# Altium footprint library deepshark_pcb_lib.PcbLib: 21 footprints (part 1 of 2)
Each footprint in its own frame and in the unit in brackets; x right, y up, seen from the top. Pads: shape width x height; smd on the part's side, far side on the other; paste and mask are expansions set on the pad; w line width, h text height; cw(c..) or ccw(c..) is an arc to the next point about the centre after c.
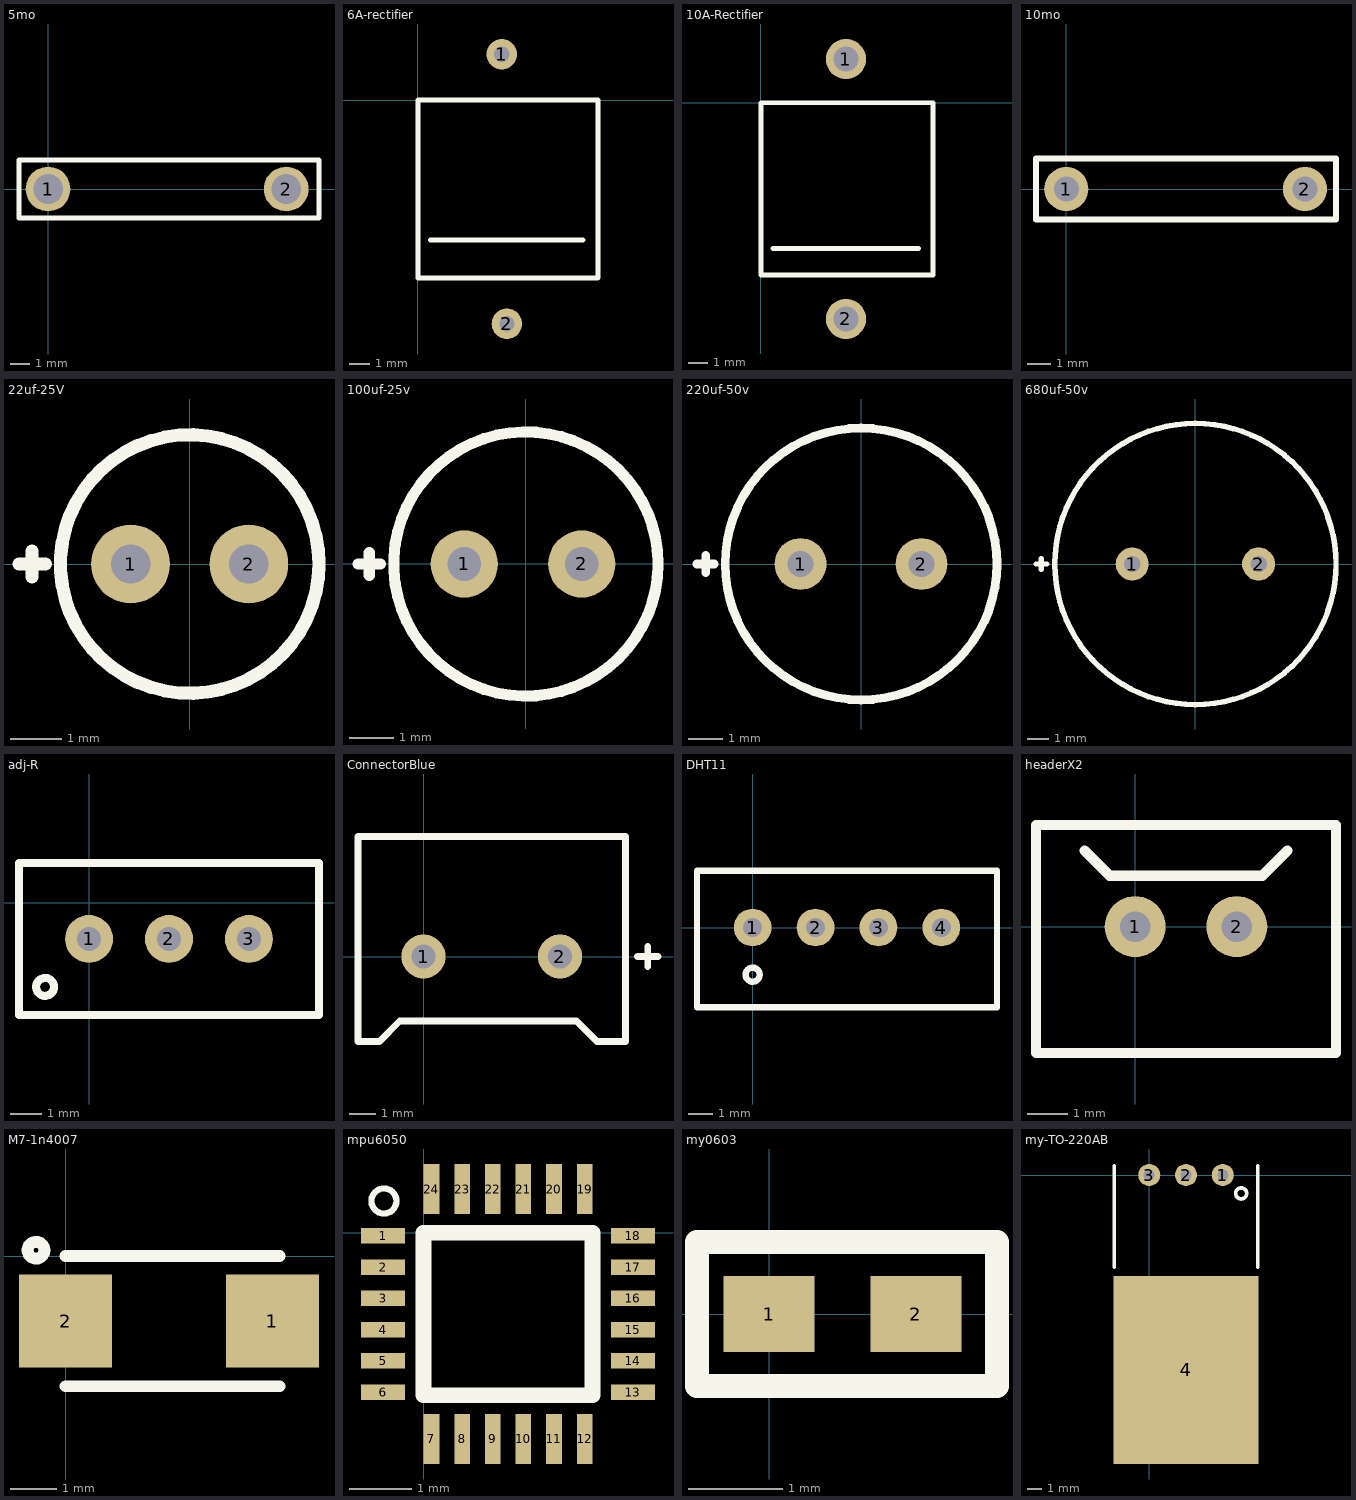
[diagram p0: the footprints below, top view; thin cyan lines are the x and y axes]

## 5mo [mm]
pads (2):
  round 2.35 hole 1.55: 1(0,0) 2(12.5,0)
Top Overlay:
  lines w0.254: -1.524,-1.524 -1.524,1.524 13.97,1.524 14.224,1.524 14.224,-1.524 -1.524,-1.524

## 6A-rectifier [mil]
pads (2):
  round 60 hole 30: 1(165,90) 2(175,-440)
Top Overlay:
  lines w10: 25,-275 325,-275 ; 0,-350.39 0,0 354.33,0 354.33,-349.33 353.27,-350.39 0,-350.39

## 10A-Rectifier [mm]
pads (2):
  round 2.1 hole 1.3: 1(4.445,2.286) 2(4.445,-11.303)
Top Overlay:
  lines w0.254: 0.635,-7.62 8.255,-7.62 ; 0,-9 0,0 9,0 9,-9 0,-9

## 10mo [mm]
pads (2):
  round 1.85 hole 1.05: 1(0,0) 2(10,0)
Top Overlay:
  lines w0.254: -1.27,-1.27 11.303,-1.27 11.303,1.27 -1.27,1.27 -1.27,-1.27

## 22uf-25V [mil]
pads (2):
  round 60 hole 30: 1(-45,0) 2(45,0)
Top Overlay:
  circle w10: c0,0 r98.43
  lines w10: -130,0 -110,0 ; -120,-10 -120,10

## 100uf-25v [mil]
pads (2):
  round 60 hole 30: 1(-55,0) 2(50,0)
Top Overlay:
  circle w10: c0,0 r118.11
  lines w10: -150,0 -130,0 ; -140,-10 -140,10

## 220uf-50v [mil]
pads (2):
  round 60 hole 30: 1(-70,0) 2(70,0)
Top Overlay:
  circle w10: c0,0 r157.48
  lines w10: -190,0 -170,0 ; -180,-10 -180,10

## 680uf-50v [mil]
pads (2):
  round 60 hole 30: 1(-115,0) 2(115,0)
Top Overlay:
  circle w10: c0,0 r255.91
  lines w10: -290,0 -270,0 ; -280,-10 -280,10

## adj-R [mil]
pads (3):
  round 60 hole 30: 1(0,-45) 2(100,-45) 3(200,-45)
Top Overlay:
  circle w10: c-55,-105 r11.18
  lines w10: 287.44,-140 -87.6,-140 -87.6,50 287.6,50 287.6,-140.16

## ConnectorBlue [mm]
pads (2):
  round 1.65 hole 0.9: 1(0,0) 2(5.1,0)
Top Overlay:
  lines w0.254: 8.001,0 8.763,0 ; 8.382,-0.381 8.382,0.381 ; -2.45,-3.175 -2.45,4.485 7.55,4.485 7.55,-3.175 6.477,-3.175 5.715,-2.413 -0.889,-2.413 -1.651,-3.175 -2.45,-3.175

## DHT11 [mil]
pads (4):
  round 60 hole 30: 1(0,0) 2(100,0) 3(200,0) 4(300,0)
Top Overlay:
  circle w10: c0,-75 r11.18
  lines w10: -88.43,-126.54 -88.43,90 388.43,90 388.43,-126.54 -88.43,-126.54

## headerX2 [mil]
pads (2):
  round 60 hole 30: 1(0,0) 2(100,0)
Top Overlay:
  lines w10: -50,75 -25,50 125,50 150,75 ; -97.64,-124.41 -97.64,100 197.64,100 197.64,-124.41 -97.64,-124.41

## M7-1n4007 [mm]
pads (2):
  rect 2x2 smd: 1(4.445,-1.397) 2(0,-1.397)
Top Overlay:
  circle w0.254: c-0.635,0.127 r0.18
  lines w0.254: 0,-2.794 4.6,-2.794 ; 0,0 4.6,0

## mpu6050 [mm]
pads (24):
  rect 0.7x0.25 smd: 1(-0.65,-0.05) 2(-0.65,-0.55) 3(-0.65,-1.05) 4(-0.65,-1.55) 5(-0.65,-2.05) 6(-0.65,-2.55) 13(3.35,-2.55) 14(3.35,-2.05) 15(3.35,-1.55) 16(3.35,-1.05) 17(3.35,-0.55) 18(3.35,-0.05)
  rect 0.25x0.8 smd: 7(0.125,-3.3) 8(0.615,-3.3) 9(1.105,-3.3) 10(1.595,-3.3) 11(2.085,-3.3) 12(2.575,-3.3) 19(2.575,0.7) 20(2.085,0.7) 21(1.595,0.7) 22(1.105,0.7) 23(0.615,0.7) 24(0.125,0.7)
Top Overlay:
  circle w0.1: c-0.635,0.508 r0.2
  lines w0.254: 0,-2.6 2.7,-2.6 2.7,0 0,0 0,-2.6

## my0603 [mm]
pads (2):
  rect 0.965x0.8 smd: 1(0,0) 2(1.555,0)
Top Overlay:
  lines w0.254: -0.762,-0.762 2.413,-0.762 2.413,0.762 -0.762,0.762 -0.762,-0.762

## my-TO-220AB [mil]
pads (4):
  round 60 hole 30: 1(200,0) 2(100,0) 3(0,0)
  rect 393.7x511.81 smd: 4(100,-530)
Top Overlay:
  circle w10: c250,-50 r15
  lines w10: -95,-250 -95,25 ; 295,-250 295,25